# Altium footprint library HE3621A0540.PcbLib: 1 footprints
Each footprint in its own frame and in the unit in brackets; x right, y up, seen from the top. Pads: shape width x height; smd on the part's side, far side on the other; paste and mask are expansions set on the pad; w line width, h text height; cw(c..) or ccw(c..) is an arc to the next point about the centre after c.
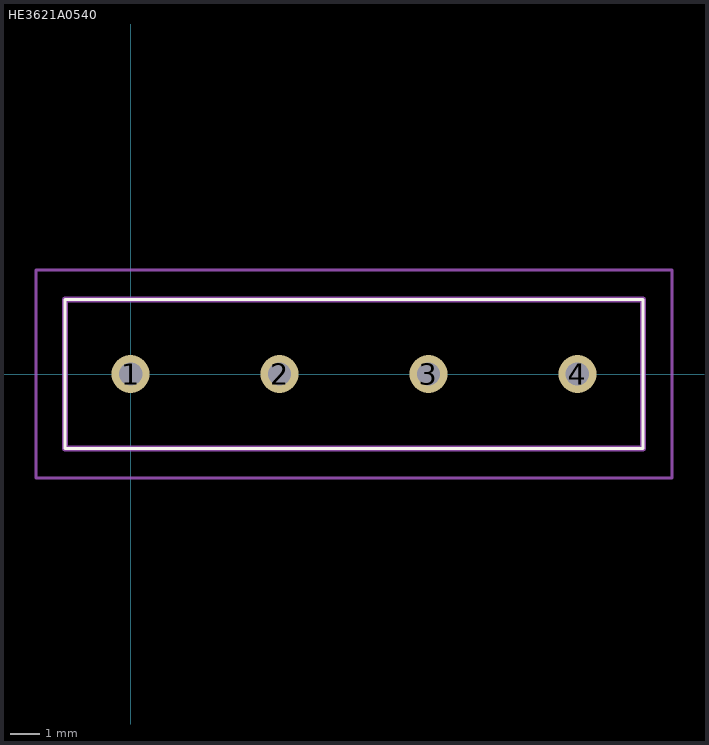
[diagram p0: the footprint, top view; thin cyan lines are the x and y axes]

## HE3621A0540 [mm]
pads (4):
  round 1.3 hole 0.8: 1(0,0) 2(5.08,0) 3(10.16,0) 4(15.24,0)
Top Overlay:
  lines w0.1: -2.23,-2.54 17.47,-2.54 17.47,2.54 -2.23,2.54 -2.23,-2.54
Mechanical 15:
  lines w0.2: -2.23,-2.54 17.47,-2.54 17.47,2.54 -2.23,2.54 -2.23,-2.54
Mechanical 20:
  lines w0.1: -3.23,-3.54 18.47,-3.54 18.47,3.54 -3.23,3.54 -3.23,-3.54